# EAGLE library part CONN_USBC_8P (library GPLIB_CONN)
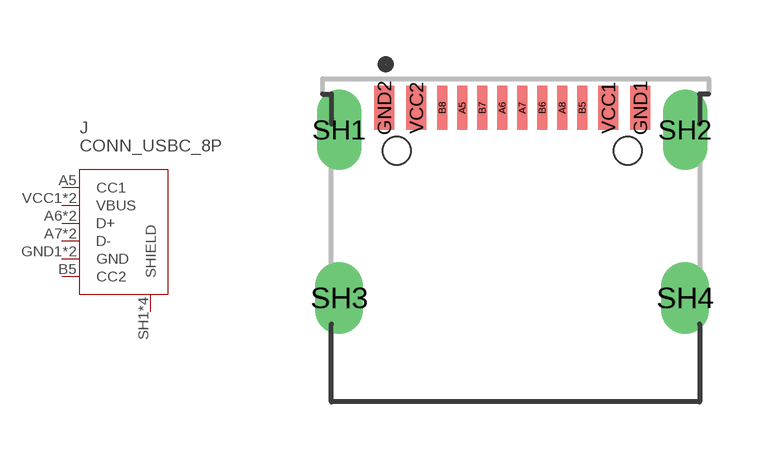
[diagram p3: symbol with the pads of CONN_USBC_08P_TYPE-C16PIN2MD(073); footprint CONN_USBC_08P_TYPE-C16PIN2MD(073)]

Designator prefix J

## CONN_USBC_8P_TYPE-C16PIN2MD(073)  [CONN_USBC_08P_TYPE-C16PIN2MD(073)]
A5  CC1
A6  D+
A7  D-
B5  CC2
B6  D+
B7  D-
GND1  GND  pwr
GND2  GND  pwr
SH1  SHIELD  pwr
SH2  SHIELD  pwr
SH3  SHIELD  pwr
SH4  SHIELD  pwr
VCC1  VBUS  pwr
VCC2  VBUS  pwr

## Footprint CONN_USBC_08P_TYPE-C16PIN2MD(073) (pad centres in mm)
smd 0.25 x 1.1: A5 -1.25,2.375; A6 -0.25,2.375; A7 0.25,2.375; A8 1.25,2.375; B5 1.75,2.375; B6 0.75,2.375; B7 -0.75,2.375; B8 -1.75,2.375
smd 0.5 x 1.1: GND1 3.2,2.375; GND2 -3.2,2.375; VCC1 2.4,2.375; VCC2 -2.4,2.375
drill 0.6 pad 1.1 slot 1.5 rotated 90: SH1 -4.325,1.825; SH2 4.325,1.825
drill 0.6 pad 1.2 slot 1.2 rotated 90: SH3 -4.325,-2.375; SH4 4.325,-2.375
hole 0.7 at -2.89,1.305
hole 0.7 at 2.89,1.305